# EAGLE library part LT3581 (library foe-scale)
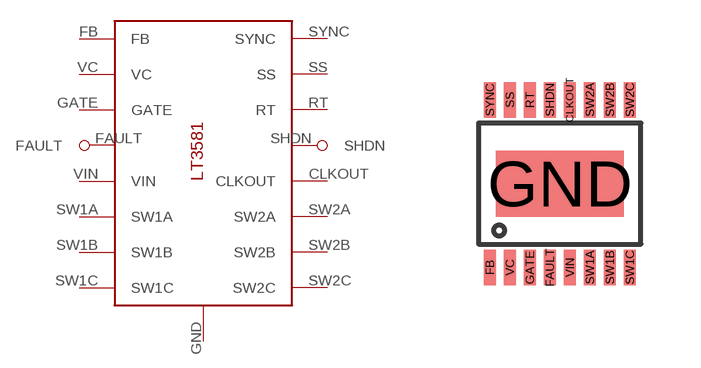
[diagram p0: symbol with the pads of LT3581; footprint LT3581]

Designator prefix U4

## LT3581  [LT3581]
CLKOUT  CLKOUT
FAULT  FAULT
FB  FB  in
GATE  GATE  nc
GND  GND
RT  RT
SHDN  SHDN
SS  SS
SW1A  SW1A
SW1B  SW1B
SW1C  SW1C
SW2A  SW2A
SW2B  SW2B
SW2C  SW2C
SYNC  SYNC
VC  VC  in
VIN  VIN

## Footprint LT3581 (pad centres in mm)
smd 0.305 x 0.889: CLKOUT 2.002,4.191; FAULT 1.501,0; FB 0,0; GATE 1.001,0; RT 1.001,4.191; SHDN 1.501,4.191; SS 0.5,4.191; SW1A 2.502,0; SW1B 3.002,0; SW1C 3.503,0; SW2A 2.502,4.191; SW2B 3.002,4.191; SW2C 3.503,4.191; SYNC 0,4.191; VC 0.5,0; VIN 2.002,0
smd 3.2 x 1.651: GND 1.751,2.095